# EAGLE library part LPS331AP (library balmer)
Pressure sensor
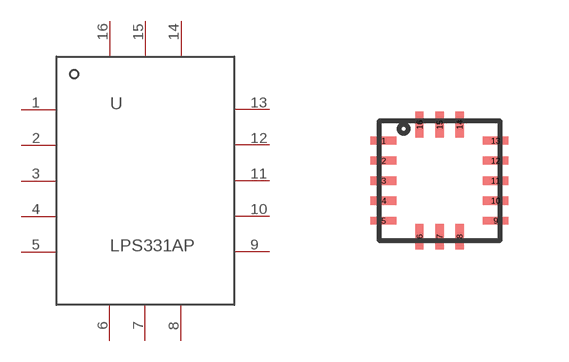
[diagram p10: symbol with the pads of HCLGA-16L; footprint HCLGA-16L]

Designator prefix -

## LPS331AP  [HCLGA-16L]
1  1
2  2
3  3
4  4
5  5
6  6
7  7
8  8
9  9
10  10
11  11
12  12
13  13
14  14
15  15
16  16

## Footprint HCLGA-16L (pad centres in mm)
smd 0.65 x 0.2: 1 -1.4,1; 2 -1.4,0.5; 3 -1.4,0; 4 -1.4,-0.5; 5 -1.4,-1; 9 1.4,-1; 10 1.4,-0.5; 11 1.4,0; 12 1.4,0.5; 13 1.4,1
smd 0.2 x 0.65: 6 -0.5,-1.4; 7 0,-1.4; 8 0.5,-1.4; 14 0.5,1.4; 15 0,1.4; 16 -0.5,1.4